# Altium integrated library LDO_TL1963A-33DCYR.IntLib: 1 symbol
Pins are listed as number, name and electrical type; pins without a type are passive.

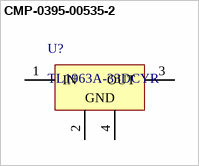
[diagram p0: symbol CMP-0395-00535-2]

## CMP-0395-00535-2
designator U?, comment TL1963A-33DCYR
Single Output Low Noise LDO, 1.5 A, Fixed 3.3 V Output, 2.1 to 20 V Input, 4-pin SOT-223 (DCY), -40 to 125 degC, Green (RoHS & no Sb/Br); Manufacturer: Texas Instruments; Vout Adj(Min)(V): 3.3; Vin(Max)(V): 20; SubFamily: Single Channel LDO; Iq(Typ)(mA): 1; Iout(Max)(A): 1.5; Vin(Min)(V): 2.1; Vdo(Typ)(mV): 340; Accuracy(%): 3; ComponentLink2Description: Datasheet; PackageVersion: 4202506/B; PackageReference: DCY0004A; ComponentLink1Description: Manufacturer URL; Eco-Plan: Green (RoHS & no Sb/Br); ComponentLink1URL: http://www.ti.com/; Fixed Output Options(V): 3.3; ComponentLink2URL: http://www.ti.com/general/docs/lit/getliterature.tsp?genericPartNumber=TL1963A-33&fileType=pdf; Vout Adj(Max)(V): 3.3; PackageDescription: 4-Pin Plastic Small Outline, Body 3.5 x 6.5 mm, Pitch 2.3 mm; ComponentLink3URL: http://www.ti.com/litv/pdf/mpds094a; DatasheetVersion: SLVS719F; PartNumber: TL1963A-33DCYR; Code_JEDEC: TO-261; Mounting Technology: Surface Mount; ComponentLink3Description: Package Specification
footprint DCY0004A_M (SOT223, 4-Leads, Body 6.7x3.7mm, Pitch 2.3mm, IPC Low Density)
footprint DCY0004A_N (SOT223, 4-Leads, Body 6.7x3.7mm, Pitch 2.3mm, IPC Medium Density)
footprint DCY0004A_L (SOT223, 4-Leads, Body 6.7x3.7mm, Pitch 2.3mm, IPC High Density)
pins: 1 IN (power) "Input. Power is supplied to the device through the IN pin. A bypass capacitor is required on this pin if the device is more than six inches away from the main input filter capacitor. In general, the output impedance of a (See Datasheet)", 2 GND (power) "Ground", 3 OUT (power) "Output. The output supplies power to the load. A minimum output capacitor (ceramic) of 10 uF is required to prevent oscillations. Larger output capacitors are required for applications with large transient loads to limit (See Datasheet)", 4 GND (power) "Ground"